# Altium footprint library JACK.PCBLIB: 92 footprints (part 1 of 6)
Each footprint in its own frame and in the unit in brackets; x right, y up, seen from the top. Pads: shape width x height; smd on the part's side, far side on the other; paste and mask are expansions set on the pad; w line width, h text height; cw(c..) or ccw(c..) is an arc to the next point about the centre after c.
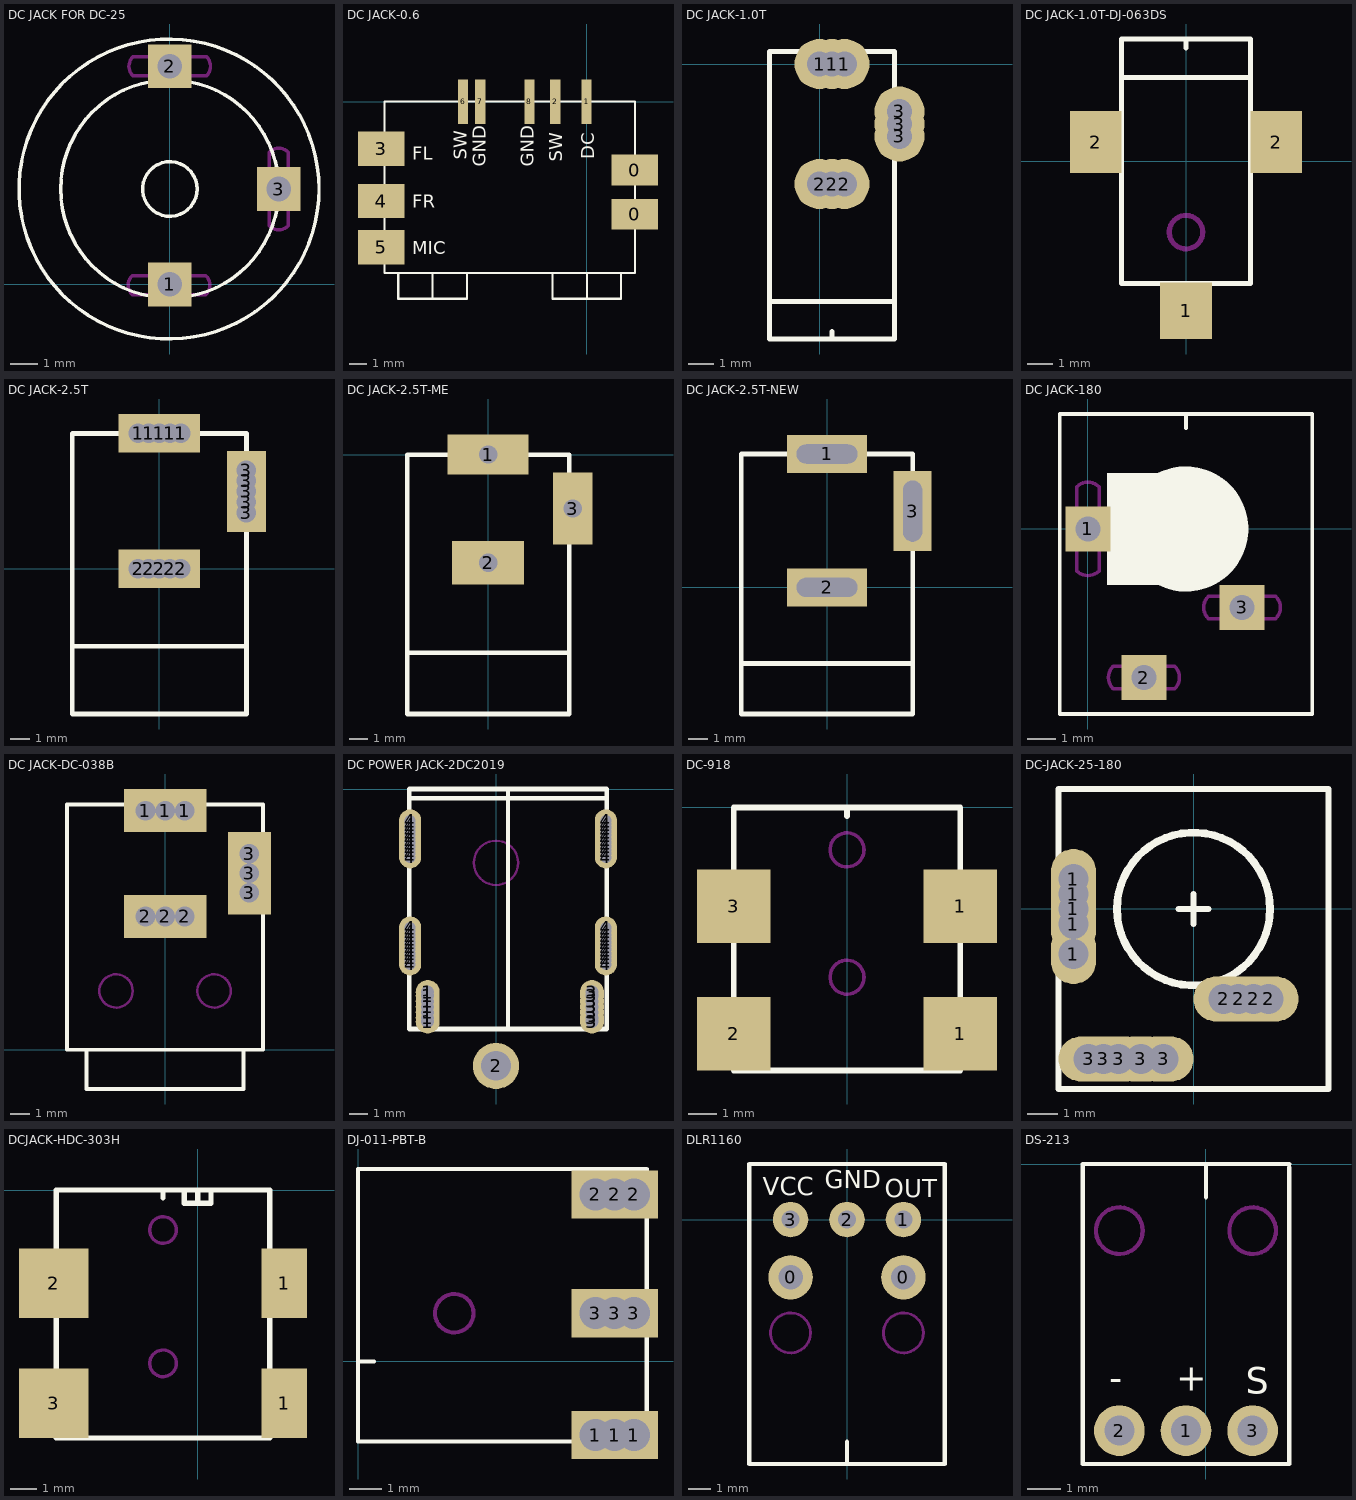
[diagram p0: the footprints below, top view; thin cyan lines are the x and y axes]

## DC JACK FOR DC-25 [mm]
pads (3):
  rect 1.6x1.6 hole 0.9: 1(0,0) 2(0,8) 3(4,3.5)
TopOverlay:
  circle w0.127: c0.006,3.5 r1
  circle w0.127: c-0.026,3.5 r5.5
  circle w0.127: c0,3.5 r4
KeepOutLayer:
  lines w0.127: -1.374,-0.373 cw(c-1.024,-0.023) -1.374,0.327 1.326,0.327 cw(c0.976,-0.023) 1.326,-0.373 -1.374,-0.373 ; -1.349,7.648 cw(c-0.999,7.998) -1.349,8.348 1.351,8.348 cw(c1.001,7.998) 1.351,7.648 -1.349,7.648 ; 3.65,2.151 ccw(c4,2.501) 4.35,2.151 4.35,4.851 ccw(c4,4.501) 3.65,4.851 3.65,2.151

## DC JACK-0.6 [mm]
pads (10):
  rect 2.7x1.8 smd: 0(2.818,-6.57) 0(2.818,-4)
  rect 0.6x2.6 smd: 1(0,0) 2(-1.832,0) 6(-7.202,0) 7(-6.202,0) 8(-3.332,0)
  rect 2.7x2 smd: 3(-11.982,-2.75) 4(-11.982,-5.8) 5(-11.982,-8.5)
TopOverlay:
  lines w0.127: -6.982,-10 -6.982,-11.5 -8.982,-11.5 ; 0.018,-11.5 0.018,-10 ; -10.982,-10 -10.982,-11.5 -8.982,-11.5 ; -10.982,-10 -8.982,-10 ; -10.982,-10 -11.782,-10 -11.782,0 2.818,0 2.818,-10 2.018,-10 ; -8.982,-11.5 -8.982,-10 ; -8.982,-10 0.018,-10 ; -1.982,-11.5 -1.982,-10 -1.982,-11.5 ; -1.982,-11.5 2.018,-11.5 2.018,-10 ; 0.018,-10 2.018,-10
  text "DC" at 0.451,-3.352 h0.76
  text "SW" at -1.429,-3.504 h0.76
  text "GND" at -3.082,-3.8 h0.76
  text "GND" at -5.882,-3.8 h0.76
  text "SW" at -6.991,-3.403 h0.76
  text "FR" at -10.182,-6.2 h0.76
  text "FL" at -10.182,-3.4 h0.76
  text "MIC" at -10.182,-8.9 h0.76

## DC JACK-1.0T [mm]
pads (9):
  round 2 hole 1: 1(0,0) 1(0.5,0) 1(1,0) 2(0,-4.8) 2(0.5,-4.8) 2(1,-4.8) 3(3.2,-2.9) 3(3.2,-2.4) 3(3.2,-1.9)
TopOverlay:
  lines w0.203: -2,-9.5 3,-9.5 ; 0.5,-11 0.5,-10.7 ; -2,-11 3,-11 3,0.5 -2,0.5 -2,-11

## DC JACK-1.0T-DJ-063DS [mm]
pads (3):
  rect 2x2.2 smd: 1(0,-5.8)
  rect 2x2.4 smd: 2(-3.5,0.75) 2(3.5,0.75)
TopOverlay:
  lines w0.2: -2.5,3.25 2.5,3.25 ; 0,4.4 0,4.75 ; -2.5,-4.75 2.5,-4.75 2.5,4.75 -2.5,4.75 -2.5,-4.75
KeepOutLayer:
  circle w0.2: c0,-2.75 r0.65

## DC JACK-2.5T [mm]
pads (15):
  rect 2x2 hole 1: 1(-1.1,7) 1(-0.55,7) 1(0,7) 1(0.55,7) 1(1.1,7) 2(-1.1,0) 2(-0.55,0) 2(0,0) 2(0.55,0) 2(1.1,0) 3(4.498,2.901) 3(4.498,3.451) 3(4.498,4.001) 3(4.498,4.551) 3(4.498,5.101)
TopOverlay:
  lines w0.254: -4.5,-4 4.5,-4 ; -4.5,-7.5 4.5,-7.5 4.5,7 -4.5,7 -4.5,-7.5

## DC JACK-2.5T-ME [mm]
pads (3):
  rect 4.5x2.2 hole 1.016: 1(0,0)
  rect 4x2.4 hole 1.016: 2(0,-6)
  rect 2.2x4 hole 1.016: 3(4.7,-3)
TopOverlay:
  lines w0.254: -4.5,-11 4.5,-11 ; -4.5,-14.4 4.5,-14.4 4.5,0 -4.5,0 -4.5,-14.4
KeepOutLayer:
  lines w0.127: -1.75,-0.5 1.75,-0.5 1.75,0.5 -1.75,0.5 -1.75,-0.5 ; -1.5,-6.5 1.5,-6.5 1.5,-5.5 -1.5,-5.5 -1.5,-6.5 ; 4.2,-4.5 4.2,-1.5 5.2,-1.5 5.2,-4.5 4.2,-4.5

## DC JACK-2.5T-NEW [mm] "DC JACK-2.5T-NEW"
pads (3):
  rect 4.2x2 hole 1 slot 3.2 at 0 deg: 1(0,7) 2(0,0)
  rect 2x4.2 hole 1 slot 3.2 at 90 deg: 3(4.498,4.001)
TopOverlay:
  lines w0.254: -4.5,-4 4.5,-4 ; -4.5,-6.65 4.5,-6.65 4.5,7 -4.5,7 -4.5,-6.65

## DC JACK-180 [mm]
pads (3):
  rect 1.6x1.6 hole 0.9: 1(0,0) 2(2,-5.3) 3(5.5,-2.8)
TopOverlay:
  circle w3: c3.495,0 r0.729
  circle w0.127: c3.5,0 r2.025
  rectangle: 0.675,-1.999 3.599,1.999
  lines w0.127: 3.5,3.6 3.5,4.1 ; -1,-6.6 -1,4.1 8,4.1 8,-6.6 -1,-6.6
KeepOutLayer:
  lines w0.127: -0.4,-1.499 ccw(c0,-1.099) 0.4,-1.499 0.4,1.501 ccw(c0,1.101) -0.4,1.501 -0.4,-1.499 ; 0.9,-5.698 cw(c1.3,-5.298) 0.9,-4.898 3.1,-4.898 cw(c2.7,-5.298) 3.1,-5.698 0.9,-5.698 ; 4.298,-3.199 cw(c4.698,-2.799) 4.298,-2.399 6.698,-2.399 cw(c6.298,-2.799) 6.698,-3.199 4.298,-3.199

## DC JACK-DC-038B [mm]
pads (9):
  rect 2.2x2.2 hole 1: 1(-1,12.2) 1(0,12.2) 1(1,12.2) 2(-1,6.8) 2(0,6.8) 2(1,6.8) 3(4.3,7.999) 3(4.3,9) 3(4.3,9.999)
TopOverlay:
  lines w0.2: -4,0 -4,-2 4,-2 4,0 ; -5,0 5,0 5,12.5 -5,12.5 -5,0
KeepOutLayer:
  circle w0.127: c2.5,3 r0.85
  circle w0.127: c-2.5,3 r0.85

## DC POWER JACK-2DC2019 [mm]
pads (62):
  round 1.3 hole 0.7: 1(-3.7,-12.6) 1(-3.7,-12.4) 1(-3.7,-12.1) 1(-3.7,-11.8) 1(-3.7,-11.5) 1(-3.7,-11.2) 1(-3.7,-11) 3(5.2,-12.6) 3(5.2,-12.4) 3(5.2,-12.1) 3(5.2,-11.8) 3(5.2,-11.5) 3(5.2,-11.2) 3(5.2,-11)
  round 2.5 hole 1.6: 2(0,-15)
  round 1.2 hole 0.6: 4(-4.65,-9.5) 4(-4.65,-9.3) 4(-4.65,-9.1) 4(-4.65,-8.9) 4(-4.65,-8.7) 4(-4.65,-8.5) 4(-4.65,-8.3) 4(-4.65,-8.1) 4(-4.65,-7.9) 4(-4.65,-7.7) 4(-4.65,-7.5) 4(-4.65,-3.7) 4(-4.65,-3.5) 4(-4.65,-3.3) 4(-4.65,-3.1) 4(-4.65,-2.9) 4(-4.65,-2.7) 4(-4.65,-2.7) 4(-4.65,-2.5) 4(-4.65,-2.3) 4(-4.65,-2.1) 4(-4.65,-1.9) 4(-4.65,-1.7) 4(5.95,-9.5) 4(5.95,-9.3) 4(5.95,-9.1) 4(5.95,-8.9) 4(5.95,-8.7) 4(5.95,-8.5) 4(5.95,-8.5) 4(5.95,-8.3) 4(5.95,-8.1) 4(5.95,-7.9) 4(5.95,-7.7) 4(5.95,-7.5) 4(5.95,-3.7) 4(5.95,-3.5) 4(5.95,-3.3) 4(5.95,-3.1) 4(5.95,-2.9) 4(5.95,-2.7) 4(5.95,-2.7) 4(5.95,-2.5) 4(5.95,-2.3) 4(5.95,-2.1) 4(5.95,-1.9) 4(5.95,-1.7)
TopOverlay:
  lines w0.2: 0.65,-13 0.65,0
  lines w0.254: -4.7,-0.5 6,-0.5 ; -4.7,-13 6,-13 6,0 -4.7,0 -4.7,-13
KeepOutLayer:
  circle w0.127: c0,-4 r1.2

## DC-918 [mm]
pads (4):
  rect 2.6x2.6 smd: 1(4,-8) 1(4,-3.5) 2(-4,-8) 3(-4,-3.5)
TopOverlay:
  lines w0.203: 0,-0.3 0,0 ; -4,-9.3 -4,0 4,0 4,-9.3 -4,-9.3
KeepOutLayer:
  circle w0.127: c0,-1.5 r0.6
  circle w0.127: c0,-6 r0.6

## DC-JACK-25-180 [mm]
pads (14):
  oval 1.5x2 hole 1: 1(-4,-1.5) 1(-4,-0.5) 1(-4,0) 1(-4,0.5) 1(-4,1)
  oval 2x1.5 hole 1: 2(1,-3) 2(1.5,-3) 2(2,-3) 2(2.5,-3) 3(-3.5,-5) 3(-3,-5) 3(-2.5,-5) 3(-1.75,-5) 3(-1,-5)
TopOverlay:
  circle w0.254: c0,0 r2.55
  lines w0.203: -0.5,0 0.5,0 ; 0,-0.5 0,0.5 ; -4.5,-6 4.5,-6 4.5,4 -4.5,4 -4.5,-6

## DCJACK-HDC-303H [mm]
pads (4):
  rect 1.7x2.6 smd: 1(3.25,-8) 1(3.25,-3.5)
  rect 2.6x2.6 smd: 2(-5.4,-3.5) 3(-5.4,-8)
TopOverlay:
  lines w0.2: -1.3,-0.3 -1.3,0 ; -0.5,0 -0.5,-0.5 0.5,-0.5 0.5,0 ; 0,-0.5 0,0 ; -5.3,-9.3 -5.3,0 2.7,0 2.7,-9.3 -5.3,-9.3
KeepOutLayer:
  circle w0.127: c-1.3,-1.5 r0.5
  circle w0.127: c-1.3,-6.5 r0.5

## DJ-011-PBT-B [mm]
pads (9):
  rect 1.5x1.5 hole 1: 1(7.4,-2.3) 1(8,-2.3) 1(8.6,-2.3) 2(7.4,5.2) 2(8,5.2) 2(8.6,5.2) 3(7.4,1.5) 3(8,1.5) 3(8.6,1.5)
TopOverlay:
  lines w0.127: 0,0 0.5,0 ; 0,-2.5 0,6 9,6 9,-2.5 0,-2.5
KeepOutLayer:
  circle w0.127: c3,1.5 r0.6

## DLR1160 [mm]
pads (5):
  round 2 hole 1.1: 0(-2.54,-2.6) 0(2.54,-2.6)
  round 1.6 hole 0.8: 1(2.54,0) 2(0,0) 3(-2.54,0)
TopOverlay:
  lines w0.2: 0,-11 0,-10 ; -4.4,-11 -4.4,2.5 4.4,2.5 4.4,-11 -4.4,-11
  text "OUT" at 1.7,1 h0.8
  text "VCC" at -3.8,1.1 h0.8
  text "GND" at -1,1.4 h0.8
KeepOutLayer:
  circle w0.127: c2.54,-5.1 r0.9
  circle w0.127: c-2.54,-5.1 r0.9

## DS-213 [mm]
pads (3):
  round 1.524 hole 0.9: 1(-0.6,-8) 2(-2.6,-8) 3(1.4,-8)
TopOverlay:
  lines w0.127: 0,-1 0,0 ; 2.5,-0.1 2.5,-9 -3.7,-9 -3.7,0 2.5,0
  text "+" at -0.9,-6.8 h0.8
  text "-" at -2.9,-6.8 h0.8
  text "S" at 1.2,-6.9 h0.8
KeepOutLayer:
  circle w0.127: c-2.6,-2 r0.7
  circle w0.127: c1.4,-2 r0.7